# EAGLE library part TC4427 (library example)
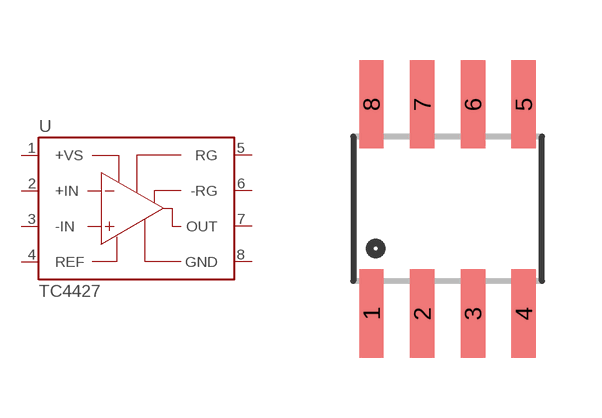
[diagram p1: symbol with the pads of SOIC-8; footprint SOIC-8]

Designator prefix -

## TC4427  [SOIC-8]
1  +VS  pwr
2  +IN  in
3  -IN  in
4  REF  in
5  RG  pas
6  -RG  pas
7  OUT  out
8  GND  pwr

## Footprint SOIC-8 (pad centres in mm)
smd 0.61 x 2.21: 1 -1.905,-2.616; 2 -0.635,-2.616; 3 0.635,-2.616; 4 1.905,-2.616; 5 1.905,2.616; 6 0.635,2.616; 7 -0.635,2.616; 8 -1.905,2.616